# Altium footprint library Custom.PcbLib: 5 footprints
Each footprint in its own frame and in the unit in brackets; x right, y up, seen from the top. Pads: shape width x height; smd on the part's side, far side on the other; paste and mask are expansions set on the pad; w line width, h text height; cw(c..) or ccw(c..) is an arc to the next point about the centre after c.
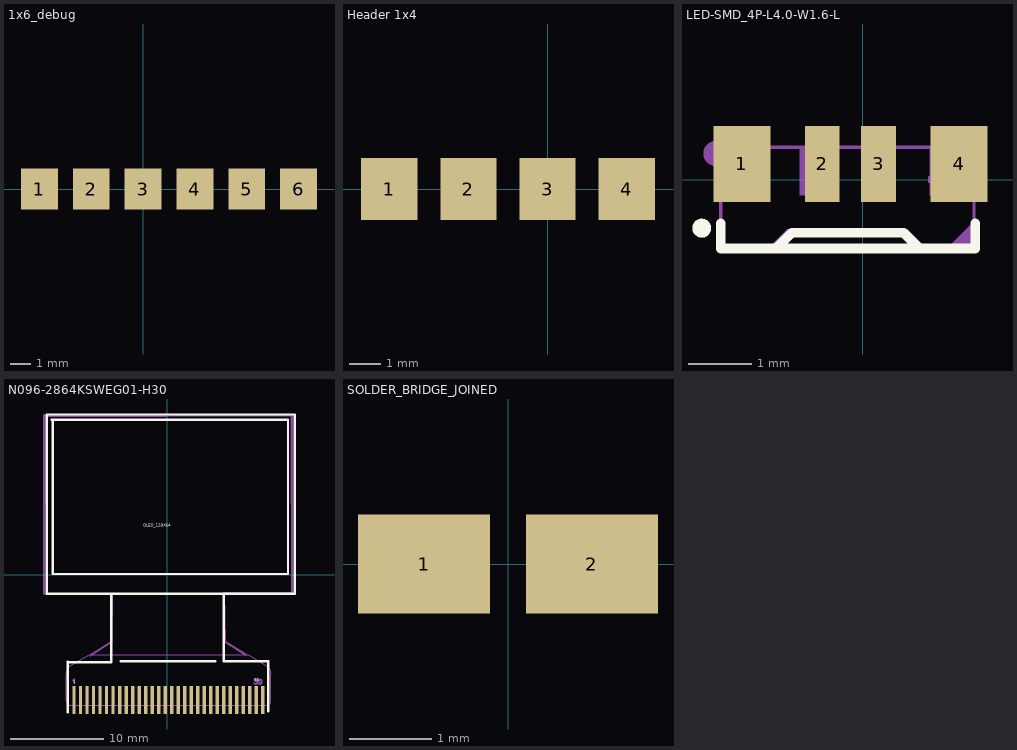
[diagram p0: the footprints below, top view; thin cyan lines are the x and y axes]

## 1x6_debug [mm] "2.54mm"
pads (6):
  rect 1.8x2 smd paste+0 mask+0.051: 1(-5.08,0) 2(-2.54,0) 3(0,0) 4(2.54,0) 5(5.08,0) 6(7.62,0)
3D body "DS1021-1x6S61.stp": height 8.6, standoff -3, extent -6.35,-1.27 8.89,1.27

## Header 1x4 [mm] "2.54mm"
pads (4):
  rect 1.8x2 smd paste+0 mask+0.051: 1(-5.08,0) 2(-2.54,0) 3(0,0) 4(2.54,0)
3D body "DS1021-1x4S61.stp": height 8.6, standoff -3, extent -6.35,-1.27 3.81,1.27

## LED-SMD_4P-L4.0-W1.6-L [mm]
pads (4):
  rect 0.9x1.2 smd paste+0 mask+0.051: 1(-1.905,0.254) 4(1.524,0.254)
  rect 0.55x1.2 smd paste+0 mask+0.051: 2(-0.635,0.254) 3(0.254,0.254)
Top Overlay:
  circle w0.15: c-2.54,-0.762 r0.075
  lines w0.15: -2.24,-1.083 -2.24,-0.683
  lines w0.152: -2.24,-1.083 1.778,-1.083 1.778,-0.683 ; -1.412,-1.083 -1.365,-1.083 -1.115,-0.833 0.648,-0.833 0.898,-1.083
Mechanical 6:
  circle w0.2: c-2.315,0.417 r0.1
  region: 1.035,-0.045 1.035,0.055 1.61,0.055 1.61,-0.045 1.035,-0.045
  region: -0.628,-0.308 -0.727,-0.308 -0.728,0.267 -0.628,0.267 -0.628,-0.308
  region: -0.965,-0.07 -0.965,0.03 -0.39,0.03 -0.39,-0.07 -0.965,-0.07
  region: -1.49,-1.083 -1.265,-1.083 -1.065,-0.883 0.585,-0.883 0.785,-1.083 1.01,-1.083 0.71,-0.783 -1.19,-0.783
  region: 1.76,-1.083 1.76,-0.658 1.335,-1.083
Mechanical 15:
  region: -1.54,-0.245 -1.54,0.505 -2.09,0.505 -2.19,0.505 -2.19,0.205 -2.09,0.205 -1.99,0.205 -1.99,-0.245
  region: 1.06,-0.245 1.06,0.505 1.61,0.505 1.81,0.505 1.81,0.205 1.51,0.205 1.51,-0.245
  region: 0.16,-0.245 0.51,-0.245 0.51,0.505 0.16,0.505
  region: -0.99,0.505 -0.39,0.505 -0.39,-0.245 -0.99,-0.245
  region: -2.18,-1.083 -2.181,-1.059 -2.216,-1.025 -2.264,-1.025 -2.299,-1.059 -2.3,-1.083 -2.299,-1.107 -2.264,-1.141 -2.216,-1.141 -2.181,-1.107 -2.18,-1.083
  lines w0.051: -2.24,-1.083 -2.24,0.517 1.76,0.517 1.76,-1.083 -2.24,-1.083

## N096-2864KSWEG01-H30 [mm] "https://jlcpcb.com/partdetail/Newvisio-N096_2864KSWEG01H30/C2890596 / OLED SSD1306"
pads (30):
  rect 0.351x3 smd paste+0 mask+0.051: 1(-10.005,-13.481) 2(-9.305,-13.483) 3(-8.605,-13.483) 4(-7.905,-13.483) 5(-7.205,-13.483) 6(-6.505,-13.483) 7(-5.805,-13.483) 8(-5.105,-13.483) 9(-4.405,-13.483) 10(-3.705,-13.483) 11(-3.005,-13.483) 12(-2.305,-13.483) 13(-1.605,-13.483) 14(-0.905,-13.483) 15(-0.205,-13.483) 16(0.495,-13.483) 17(1.195,-13.483) 18(1.895,-13.483) 19(2.595,-13.483) 20(3.295,-13.483) 21(3.995,-13.483) 22(4.695,-13.483) 23(5.395,-13.483) 24(6.095,-13.483) 25(6.795,-13.483) 26(7.495,-13.483) 27(8.195,-13.483) 28(8.895,-13.485) 29(9.595,-13.486) 30(10.295,-13.486)
Top Overlay:
  lines w0.254: -12.297,16.676 13.003,16.676 13.003,0.076 -12.297,0.076 -12.297,16.576 -12.397,16.676 -12.097,16.676 -11.697,16.676 ; -10.703,-14.785 -10.703,-9.385 ; -10.697,-9.424 -5.997,-9.424 -5.997,-2.024 ; -4.997,-9.324 5.203,-9.324 ; 6.103,-2.124 6.103,-9.324 10.903,-9.324 ; 10.897,-14.685 10.897,-9.285 ; -12.955,-2.044 13.745,-2.044 13.745,17.216 -12.955,17.216 -12.955,-2.044
  text "OLED_128X64" at -2.54,5.154 h0.33
  text "30" at 9.361,-11.453 h0.33
  text "1" at -10.105,-11.672 h0.33
Mechanical 6:
  region: 9.345,-11.284 9.385,-11.334 9.525,-11.334 9.465,-11.434 9.465,-11.484 9.505,-11.524 9.585,-11.534 9.605,-11.534 9.625,-11.574 9.625,-11.604 9.605,-11.644 9.575,-11.664 9.545,-11.684 9.495,-11.674 9.455,-11.664 9.435,-11.604 9.385,-11.584 9.315,-11.604 9.295,-11.644 9.325,-11.734 9.395,-11.794 9.475,-11.824 9.575,-11.824 9.675,-11.794 9.745,-11.724 9.765,-11.644 9.775,-11.544 9.745,-11.454 9.695,-11.414 9.675,-11.394 9.735,-11.314 9.755,-11.264 9.735,-11.214 9.695,-11.184 9.395,-11.184 9.345,-11.234
  region: 10.165,-11.764 10.065,-11.824 9.965,-11.824 9.875,-11.784 9.805,-11.704 9.785,-11.584 9.785,-11.434 9.805,-11.334 9.875,-11.224 10.005,-11.184 9.995,-11.344 9.965,-11.364 9.945,-11.394 9.925,-11.474 9.925,-11.534 9.945,-11.624 9.975,-11.664 10.015,-11.674 10.055,-11.664 10.075,-11.634 10.095,-11.534 10.095,-11.484 10.075,-11.394 10.055,-11.354 10.005,-11.334 10.015,-11.184 10.095,-11.204 10.155,-11.234 10.215,-11.314 10.255,-11.454 10.245,-11.574 10.225,-11.684 10.165,-11.764
  region: -10.175,-11.354 -10.135,-11.404 -10.085,-11.404 -10.045,-11.394 -10.055,-11.734 -9.975,-11.804 -9.905,-11.734 -9.905,-11.214 -9.955,-11.164 -10.025,-11.174 -10.095,-11.244 -10.165,-11.284
  region: 8.635,-8.574 6.295,-7.144 6.225,-2.034 13.535,-2.054 13.495,17.226 0.165,17.206 0.165,16.996 13.295,17.036 13.335,-1.874 6.135,-1.904 6.035,-1.894 6.075,-7.154 6.075,-7.224 8.535,-8.754 8.405,-8.474
  region: -8.435,-8.644 -6.095,-7.214 -6.025,-2.104 -13.335,-2.124 -13.295,17.156 0.035,17.136 0.035,16.926 -13.095,16.966 -13.135,-1.944 -5.935,-1.974 -5.835,-1.964 -5.875,-7.224 -5.875,-7.294 -8.335,-8.824 -8.205,-8.544
Mechanical 15:
  drawing of 49 lines, arcs and shapes, not listed

## SOLDER_BRIDGE_JOINED [mm]
pads (2):
  rect 1.6x1.2 smd paste+0 mask+0.051: 1(-1.016,0) 2(1.016,0)